# Altium integrated library BMS_MasterboardUpdated.IntLib: 30 symbols
Pins are listed as number, name and electrical type; pins without a type are passive.

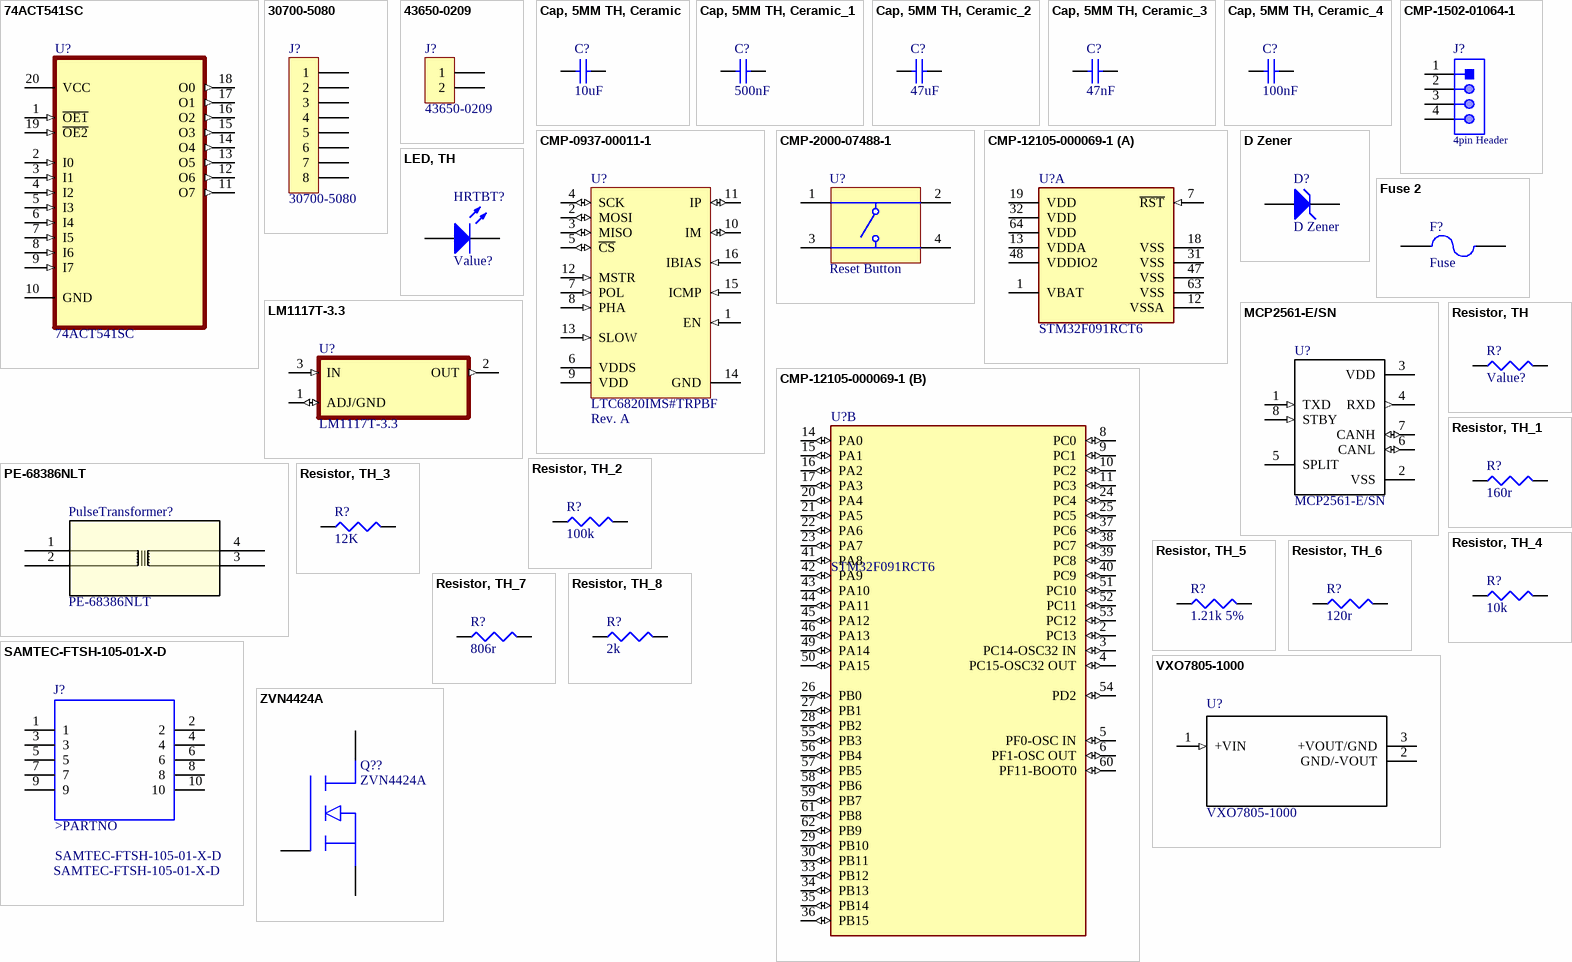
[diagram p0: symbols 74ACT541SC to ZVN4424A]

## 74ACT541SC
designator U?
Buffer, Non-Inverting 1 Element 8 Bit per Element 3-State Output 20-SOIC; MF: ON Semiconductor; DigiKey-Purchase-URL: https://snapeda.com/shop?store=DigiKey&id=431052; Mouser-Purchase-URL: https://snapeda.com/shop?store=Mouser&id=431052; SnapEDA_Link: https://www.snapeda.com/parts/74ACT541SC/ON%20Semiconductor/view-part/431052/?ref=snap; Price: None; Arrow_Electronics-Purchase-URL: https://snapeda.com/shop?store=Arrow+Electronics&id=431052; MP: 74ACT541SC; Value: *; Availability: Warning; Package: SOIC-20 Fairchild Semiconductor
footprint SOIC127P1032X265-20N
pins: 1 ~{OE1} (in), 2 I0 (in), 3 I1 (in), 4 I2 (in), 5 I3 (in), 6 I4 (in), 7 I5 (in), 8 I6 (in), 9 I7 (in), 10 GND, 11 O7 (out), 12 O6 (out), 13 O5 (out), 14 O4 (out), 15 O3 (out), 16 O2 (out), 17 O1 (out), 18 O0 (out), 19 ~{OE2} (in), 20 VCC (power)

## 30700-5080
designator J?
Molex 8 Position High Density Board Header; TargetLibrary: RITRacing-Connectors; PartNumber: 30700-5080; Manufacturer: Molex; Publisher: T.Tallo; Published: 22Oct2016; Status: Active; ComponentLink1URL: http://www.molex.com/molex/products/datasheet.jsp?part=active/0307004081_PCB_HEADERS.xml; ComponentLink1Description: Datasheet
footprint 30700-5080
pins: 1, 2, 3, 4, 5, 6, 7, 8

## 43650-0209
designator J?
Molex 2 Position Board Header, RIght Angle; TargetLibrary: RITRacing-Connectors; Voltage: 600V; PartNumber: 43650-0209; Manufacturer: Molex; Publisher: T.Tallo; Published: 13Aug2018; Status: Active; ComponentLink1URL: http://www.mouser.com/ds/2/418/NG_CD_1445088_A1-614413.pdf; ComponentLink1Description: Datasheet
footprint 43650-0209 (Molex 2 Position Board Header, Right Angle)
pins: 1, 2

## Cap, 5MM TH, Ceramic
designator C?, comment 10uF
Generic Cap, 5MM TH, Ceramic; TargetLibrary: RITRacing-Passives; Value: Value?; Publisher: T.Tallo; Published: 22Oct2016; Status: Active
footprint Cap, 5mm TH, Ceramic (Through Hole Cap, Ceramic)
pins: 1 Pos, 2 Neg

## Cap, 5MM TH, Ceramic_1
designator C?, comment 500nF
Generic Cap, 5MM TH, Ceramic; TargetLibrary: RITRacing-Passives; Value: Value?; Publisher: T.Tallo; Published: 22Oct2016; Status: Active
footprint Cap, 5mm TH, Ceramic (Through Hole Cap, Ceramic)
pins: 1 Pos, 2 Neg

## Cap, 5MM TH, Ceramic_2
designator C?, comment 47uF
Generic Cap, 5MM TH, Ceramic; TargetLibrary: RITRacing-Passives; Value: Value?; Publisher: T.Tallo; Published: 22Oct2016; Status: Active
footprint Cap, 5mm TH, Ceramic (Through Hole Cap, Ceramic)
pins: 1 Pos, 2 Neg

## Cap, 5MM TH, Ceramic_3
designator C?, comment 47nF
Generic Cap, 5MM TH, Ceramic; TargetLibrary: RITRacing-Passives; Value: Value?; Publisher: T.Tallo; Published: 22Oct2016; Status: Active
footprint Cap, 5mm TH, Ceramic (Through Hole Cap, Ceramic)
pins: 1 Pos, 2 Neg

## Cap, 5MM TH, Ceramic_4
designator C?, comment 100nF
Generic Cap, 5MM TH, Ceramic; TargetLibrary: RITRacing-Passives; Value: Value?; Publisher: T.Tallo; Published: 22Oct2016; Status: Active
footprint Cap, 5mm TH, Ceramic (Through Hole Cap, Ceramic)
pins: 1 Pos, 2 Neg

## CMP-0937-00011-1
designator U?, comment LTC6820IMS#TRPBF  DatasheetVersion: Rev. A
IsoSPI Isolated Communication Interface, 2.7 to 5.5 V, -40 to 85 degC, 16-Pin MSOP (MS), Pb-Free, Tape and Reel; Manufacturer: Linear Technology; Manufacturer: Analog Devices / Linear Technology; IO Supply Current: 1 uA Max.; Supply Current, IDLE State: 2 uA; IO Supply Voltage Range: 1.7 to 5.5 V; Receiver Input Resistance: 35 kOhm; VBIAS: 1.9 to 2.1 V; Packing: Tape and Reel; PartNumber: LTC6820IMS#TRPBF; Mounting Technology: Surface Mount; ComponentLink2Description: Datasheet; ComponentLink3Description: Package Specification; ComponentLink1Description: Manufacturer URL; PackageVersion: Rev. A; Temperature Range (degC): -40 to 85; ComponentLink2URL: http://cds.linear.com/docs/en/datasheet/6820fa.pdf; Power Supply: 2.7 to 5.5 V; ComponentLink1URL: http://www.linear.com/; PackageDescription: 16-Pin Micro Small Outline Package, Body 4.039 x 3 mm, Pitch 0.5 mm; ComponentLink3URL: http://cds.linear.com/docs/en/packaging/05081669_A_MS16.pdf; PackageReference: MS-16; Manufacturer Part Number: LTC6820IMS#TRPBF
footprint LT-MS-16_M (SOP, 16-Leads, Body 4.04x3.00mm, Pitch 0.50mm, IPC Low Density)
footprint LT-MS-16_L (SOP, 16-Leads, Body 4.04x3.00mm, Pitch 0.50mm, IPC High Density)
footprint LT-MS-16_N (SOP, 16-Leads, Body 4.04x3.00mm, Pitch 0.50mm, IPC Medium Density)
pins: 1 EN (in) "Device Enable Input. If high, this pin forces the LTC6820 to stay enabled, overriding the internal IDLE mode function. If low, the LTC6820 will go into IDLE mode after the C\S\ pin has been high for 5.7ms (when MSTR pin is high) or after no signal on the IP/IM pins for 5.7ms (when MSTR pin is low). The LTC6820 will wake-up less than 8us after C\S\ falls (MSTR high) or after a signal is detected on IP/IM (MSTR low).", 2 MOSI (io) "SPI Master Out/Slave In Data. If connected on the master side of a SPI interface (MSTR pin high), this pin receives the data signal output from the master SPI controller. If connected on the slave side of the interface (MSTR pin low), this pin drives the data signal input to the slave SPI device. The output is open drain, so an external pull-up resistor to VDDS is required.", 3 MISO (io) "SPI Master Out/Slave In Data. If connected on themaster side of a SPI interface (MSTR pin high), this pin receives the data signal output from the master SPI controller. If connected on the slave side of the interface (MSTR pin low), this pin drives the data signal input to the slave SPI device. The output is open drain, so an external pull-up resistor to VDDS is required.", 4 SCK (io) "SPI Clock Input/Output. If connected on the master side of the interface (MSTR pin high), this pin receives the clock signal from the master SPI controller. This input should not be pulled above VDDS. If connected on the slave side of the interface (MSTR pin low), this pin outputs the clock signal to the slave device. The output driver is push-pull; no external pull-up resistor is needed.", 5 ~{CS} (io) "SPI Chip Select Input/Output. If connected on the masterside ofthe interface (MSTR pin high), this pin receivesthe chip select signal from the master SPI controller. This input should not be pulled above VDDS. Ifconnected on the slave side of the interface (MSTR pin low), this pin outputs the chip select signal to the slave device. The output driver is push-pull; no external pull-up resistor is needed.", 6 VDDS (power) "SPI Input/Output Power Supply Input.The output drivers for the SCK and C\S\ pins use the VDDS input as their positive power supply. The input threshold voltages of SCK, C\S\, MOSI, MISO and EN are determined by VDDS. May be tied to VDD or to a supply above or below VDD to level shift the SPI I/O. If separate from VDD, connect a bypass capacitor of at least 0.01 pF directly between VDDS amd GND", 7 POL (in) "SPI Clock Polarity Input. Tie to VDD or GND. See Operation section for details.", 8 PHA (in) "SPI Clock Phase Input. Tie to VDD orGND. See Operation section for details.", 9 VDD (power) "Device Power Supply Input. Connect a bypass capacitor of at least 0.01uF directly between VDD and GND.", 10 IM (io) "Isolated Interface Minus Input/Output.", 11 IP (io) "Isolated Interface Plus Input/Output.", 12 MSTR (in) "Serial Interface Master/Slave Selector Input. Tie this pin to VDD if the device is on the master side of the isolated interface. Tie this pin to GND if the device is on the slave side of the isolated interface", 13 SLOW (in) "Slow Interface Selection Input. For clock frequencies at or below 200kHz, or if slave devices cannot meet timing requirements, this pin should be tied to VDD. For clock frequencies above 200kHz, this pin should be tied to GND.", 14 GND (power) "Device Ground.", 15 ICMP (in) "Isolated Interface Comparator Voltage Threshold Set. Tie this pin to the resistor divider between IBIAS and GND to set the voltage threshold of the interface receiver comparators. The comparator thresholds are set to 1/2 the voltage on the ICMP pin.", 16 IBIAS (in) "Isolated Interface Current Bias. Tie IBIAS to GND through a resistor divider to set the interface output current level.When the device is enabled, this pin is approximately 2V. When transmitting pulses, the sink current on each of the IP and IM pins is set to 20 times the current sourced from pin IBIAS to GND. Limit the capacitance on the IBIAS pin to less than 50pF to maintain the stability of the feedback circuit regulating the IBIAS voltage."

## CMP-1502-01064-1
designator J?, comment 4pin Header
THT Vertical Pin Header WR-PHD, Pitch 2.54 mm, Single Row, 4 pins; Manufacturer: Wurth Elektronik; Part Number: 61300411121; Manufacturer: Wurth Electronics; Withstanding Voltage: 500VAC; Rated Current: 3A; Working Voltage: 250VAC; Pin Number: 4; Gender: Male; Contact Resistance: 20mOhm; Pitch: 2.54mm; Manufacturer URL: http://www.we-online.de; Operating Temperature: -40to105degC; Packaging: Bag; Mounting Technology: THT; Package Reference: 61300411121; Datasheet URL: https://katalog.we-online.de/em/datasheet/6130xx11121.pdf; Publisher: WurthElektronik; Row Number: Single; Orientation: Vertical; Manufacturer Part Number: 61300411121
footprint 61300411121 (Pin Header, pitch 2.54 mm, THT, Vertical, single row, 4p)
pins: 1, 2, 3, 4

## CMP-2000-07488-1
designator U?, comment Reset Button
Swicth, SPST, 24 V, -35 to 85 degC, 4-Pin SMD, RoHS, Tape and Reel; Manufacturer: TE Connectivity; Switch Travel: 0.25mm; Mechanical Life: 100000Cycles; Contact Current Rating: 50mA; Operating Force: 1.57N; Actuator Material: Polyamide; Contact Resistance: 100mOhm; Voltage Rating: 24V; Illumination Type: Illuminated; Actuator Length: 0.055inch; Max Voltage Rating (DC): 12V; Case\/Package: SMD/SMT; Orientation: Straight; Datasheet URL: http://www.te.com/commerce/DocumentDelivery/DDEController?Action=showdoc&DocId=Customer+Drawing%7F2-1437565-7%7FV%7Fpdf%7FEnglish%7FENG_CD_2-1437565-7_V.pdf%7F4-1437565-2; Min Operating Temperature: -35degC; Packaging: LoosePiece; Termination: GullWing; Throw Configuration: SPST; Package Description: 4-Pin Surface Mount Device, Body 6 x 6 mm, Pitch 4.5 mm; Mounting Technology: SurfaceMount; Contact Plating: Silver; Datasheet Version: Rev. V, 02/2015; RoHSCompliant: true; Max Operating Temperature: 85degC; Length: 6mm; Voltage Rating (DC): 24V; Electrical Life: 100000Cycles; Current Rating: 50mA; Package Quantity: 750; Mount: SurfaceMount; Package Reference: FSM4JSMA; Manufacturer URL: http://www.te.com/; Width: 6mm; REACH SVHC: Unknown; Contact Material: CopperAlloy
footprint TECO-FSM4JSMA_V (SMD, 4-Leads, Body 6x6mm, Pitch 4.5mm)
pins: 1, 2, 3, 4

## CMP-12105-000069-1
designator U?, comment STM32F091RCT6
IC MCU 32BIT 256KB FLASH 64LQFP; Manufacturer: STMicroelectronics; Ram Size: 32KBytes; Number Of A/D Converters: 1; Standoff Height: 0.05mm; Number Of I/Os: 52; Number Of Pwm Channels: 6; Max Supply Voltage: 3.6V; Data Bus Width: 32bits; Max Junction Temp: +105°C; Number Of Spi Channels: 2; Min Supply Voltage: 2V; Number Of Adc Channels: 19; Memory Size: 256KBytes; Frequency: 48MHz; Nominal Supply Current: 0.9-26.9mA; Number Of Uart Channels: 8; Core Architecture: ARM Cortex-M0; Number Of Timers/Counters: 10; Interface: I2C,SPI,USART,CAN,LIN,IrDA,I2S,SMBus; Category: IC; Digikey Description: IC MCU 32BIT 256KB FLASH 64LQFP; Temperature Range Low: -40°C; Lead Free: Yes; ComponentLink2Description: Datasheet; Octopart: https://octopart.com/stm32f091rct6-stmicroelectronics-51988683; Device Class L1: Integrated Circuits (ICs); Automotive: No; Temperature Range High: +85°C; Ambient Temperature Range Low: -40°C; Device Class L2: Embedded Processors and Controllers; Number Of I2C Channels: 2; Memory Type: FLASH; Device Class L3: Microcontrollers; Height: 1.6mm; Temperature: -40°C to +85°C; Ambient Temperature Range High: +85°C; RoHS: TRUE; Ipc Land Pattern Name: QFP50P1200X1200X160-64; ComponentLink2URL: https://www.st.com/resource/en/datasheet/stm32f091rc.pdf; Manufacturer Part Number: STM32F091RCT6; Package: LQFP64-5W; Mouser Description: ARM Microcontrollers - MCU 16/32-BITS MICROS; Number Of Cores: 1
footprint FP-LQFP64-5W-MFG
footprint FP-LQFP64-5W-IPC_C
footprint FP-LQFP64-5W-IPC_B
footprint FP-LQFP64-5W-IPC_A
part A pins: 1 VBAT (power), 7 ~{RST} (in), 12 VSSA (power), 13 VDDA (power), 18 VSS (power), 19 VDD (power), 31 VSS (power), 32 VDD (power), 47 VSS (power), 48 VDDIO2 (power), 63 VSS (power), 64 VDD (power)
part B pins: 2 PC13 (io), 3 PC14-OSC32 IN (io), 4 PC15-OSC32 OUT (io), 5 PF0-OSC IN (io), 6 PF1-OSC OUT (io), 8 PC0 (io), 9 PC1 (io), 10 PC2 (io), 11 PC3 (io), 14 PA0 (io), 15 PA1 (io), 16 PA2 (io), 17 PA3 (io), 20 PA4 (io), 21 PA5 (io), 22 PA6 (io), 23 PA7 (io), 24 PC4 (io), 25 PC5 (io), 26 PB0 (io), 27 PB1 (io), 28 PB2 (io), 29 PB10 (io), 30 PB11 (io), 33 PB12 (io), 34 PB13 (io), 35 PB14 (io), 36 PB15 (io), 37 PC6 (io), 38 PC7 (io), 39 PC8 (io), 40 PC9 (io), 41 PA8 (io), 42 PA9 (io), 43 PA10 (io), 44 PA11 (io), 45 PA12 (io), 46 PA13 (io), 49 PA14 (io), 50 PA15 (io), 51 PC10 (io), 52 PC11 (io), 53 PC12 (io), 54 PD2 (io), 55 PB3 (io), 56 PB4 (io), 57 PB5 (io), 58 PB6 (io), 59 PB7 (io), 60 PF11-BOOT0 (io), 61 PB8 (io), 62 PB9 (io)

## D Zener
designator D?
Zener Diode; Published: 8-Jun-2000; LatestRevisionDate: 17-Jul-2002; LatestRevisionNote: Re-released for DXP Platform.; PackageReference: DIODE-0.7; Publisher: Altium Limited; PackageDescription: Diode, Thru-Hole; 2 Leads; 0.7 in Pin Spacing
footprint Diode, TH (Axial Through Hole Diode 1N914)
simulation model ZENER (Diode)
signal-integrity model D Zener
pins: 1 A, 2 K

## Fuse 2
designator F?, comment Fuse
Published: 8-Jun-2000; LatestRevisionDate: 17-Jul-2002; LatestRevisionNote: Re-released for DXP Platform.; PackageReference: PIN-W2/E2.8; Publisher: Altium Limited; PackageDescription: Thru-Hole; 2 Leads
footprint PIN-W2/E2.8 (Thru-Hole; 2 Leads)
simulation model FUSE (Spice Subcircuit)
pins: 1, 2

## LED, TH
designator HRTBT?, comment Value?
LED, 5mm, TH; TargetLibrary: RITRacing-LED's; Publisher: T.Tallo; Published: 22Oct2016; Status: Active; Value: Value?
footprint LED, TH (Through Hole LED)
pins: 1 A, 2 K

## LM1117T-3.3
designator U?
800-mA 15-V linear voltage regulator 3-TO-220 0 to 125; MP: LM1117T-3.3/NOPB; MF: Texas Instruments; Arrow_Electronics-Purchase-URL: https://snapeda.com/shop?store=Arrow+Electronics&id=22275; Availability: https://www.mouser.com/ProductDetail/Texas-Instruments/LM1117T-33-NOPB?qs=X1J7HmVL2ZF7RIQB6O0mNg%3D%3D&gclid=Cj0KCQjwvvj5BRDkARIsAGD9vlJnD1MNOYBTPv7FHDAskkwDQ_PuLBSV-edvQAne3qvGjGEuZX3qJSwaAtIgEALw_wcB; Texas_Instruments-Purchase-URL: https://snapeda.com/shop?store=Texas+Instruments&id=22275; DigiKey-Purchase-URL: https://snapeda.com/shop?store=DigiKey&id=22275; Price: None; Value: *; SnapEDA_Link: https://www.snapeda.com/parts/LM1117T-3.3/NOPB/Texas%20Instruments/view-part/22275/?ref=snap; Package: TO-220-3 Texas Instruments; Mouser-Purchase-URL: https://snapeda.com/shop?store=Mouser&id=22275
footprint TO254P1054X470X1955-3
pins: 1 ADJ/GND (io), 2 OUT (out), 3 IN (in)

## MCP2561-E/SN
designator U?
1/1 Transceiver Half CANbus 8-SOIC; MF: Microchip; Price: None; MP: MCP2561-E/SN; SnapEDA_Link: https://www.snapeda.com/parts/MCP2561-E/SN/Microchip/view-part/46593/?ref=snap; Availability: Unavailable; Package: SOIC-8 Microchip; Value: *
footprint *SOIC127P600X175-8N
pins: 1 TXD (in), 2 VSS (power), 3 VDD (power), 4 RXD (out), 5 SPLIT, 6 CANL (io), 7 CANH (io), 8 STBY (in)

## PE-68386NLT
designator PulseTransformer?
No Description Available; Vendor: Pulse Electronics Corporation; Built_By: EMA_Cory; SourceLibrary: Pulse_Electronics_2019-12-18; Manufacturer_Part_Number: PE-68386NLT; Copyright: Copyright (C) 2018 Accelerated Designs. All rights reserved; RefDes: RefDes; Type: DEV
footprint PE-68386NL_PUL
pins: 1, 2, 3, 4

## Resistor, TH
designator R?, comment Value?
Generic TH Resistor; TargetLibrary: RITRacing-Passives; Publisher: T.Tallo; Published: 22Oct2016; Status: Active; Value: Value?
footprint Resistor, TH (Axial Through Hole Resistor)
pins: 1, 2

## Resistor, TH_1
designator R?, comment 160r
Generic TH Resistor; TargetLibrary: RITRacing-Passives; Value: Value?; Publisher: T.Tallo; Published: 22Oct2016; Status: Active
footprint Resistor, TH (Axial Through Hole Resistor)
footprint RESAD640W45L370D200 - duplicate
pins: 1, 2

## Resistor, TH_2
designator R?, comment 100k
Generic TH Resistor; TargetLibrary: RITRacing-Passives; Value: Value?; Publisher: T.Tallo; Published: 22Oct2016; Status: Active
footprint RESAD640W45L370D200 - duplicate
pins: 1, 2

## Resistor, TH_3
designator R?, comment 12K
Generic TH Resistor; TargetLibrary: RITRacing-Passives; Value: Value?; Publisher: T.Tallo; Published: 22Oct2016; Status: Active
footprint Resistor, TH (Axial Through Hole Resistor)
pins: 1, 2

## Resistor, TH_4
designator R?, comment 10k
Generic TH Resistor; TargetLibrary: RITRacing-Passives; Value: Value?; Publisher: T.Tallo; Published: 22Oct2016; Status: Active
footprint Resistor, TH (Axial Through Hole Resistor)
footprint RESAD640W45L370D200 - duplicate
pins: 1, 2

## Resistor, TH_5
designator R?, comment 1.21k 5%
Generic TH Resistor; TargetLibrary: RITRacing-Passives; Value: Value?; Publisher: T.Tallo; Published: 22Oct2016; Status: Active
footprint RESAD640W45L370D200 - duplicate
pins: 1, 2

## Resistor, TH_6
designator R?, comment 120r
Generic TH Resistor; TargetLibrary: RITRacing-Passives; Value: Value?; Publisher: T.Tallo; Published: 22Oct2016; Status: Active
footprint RESAD640W45L370D200 - duplicate
pins: 1, 2

## Resistor, TH_7
designator R?, comment 806r
Generic TH Resistor; TargetLibrary: RITRacing-Passives; Value: Value?; Publisher: T.Tallo; Published: 22Oct2016; Status: Active
footprint RESAD640W45L370D200 - duplicate
pins: 1, 2

## Resistor, TH_8
designator R?, comment 2k
Generic TH Resistor; TargetLibrary: RITRacing-Passives; Value: Value?; Publisher: T.Tallo; Published: 22Oct2016; Status: Active
footprint Resistor, TH (Axial Through Hole Resistor)
footprint RESAD640W45L370D200 - duplicate
pins: 1, 2

## SAMTEC-FTSH-105-01-X-D
designator J?
Connector Header Through Hole 10 position 0.050" _1.27mm_; MP: FTSH-105-01-F-D; MF: Samtec; Value: *; Package: None; SnapEDA_Link: https://www.snapeda.com/parts/FTSH-105-01-F-D/Samtec%20Inc./view-part/105348/?ref=snap; Price: None; Availability: Unavailable
footprint SAMTEC-FTSH-105-01-X-D
footprint SAMTEC-FTSH-105-01-X-D
pins: 1, 2, 3, 4, 5, 6, 7, 8, 9, 10
text: >PARTNO

## VXO7805-1000
designator U?
Value: *
footprint CONV_VXO7805-1000
pins: 1 +VIN (in), 2 GND/-VOUT, 3 +VOUT/GND (power)

## ZVN4424A
designator Q??
N-Channel MOSFET, 240V, 260mA; Manufacturer: Diodes Inc; TargetLibrary: RITRacing-Transistors; PartNumber: ZVN4424A; Publisher: T.Tallo; Published: 09/27/2017; Status: Active; ComponentLink1URL: https://www.diodes.com/assets/Datasheets/ZVN4424A.pdf; ComponentLink1Description: Datasheet
footprint TO-92-3 Kinked (Kinked Leg, Through Hole Transistor Footprint)
pins: 1 Drain, 2 Gate, 3 Source